# Altium footprint library TagConnect.PcbLib: 4 footprints
Each footprint in its own frame and in the unit in brackets; x right, y up, seen from the top. Pads: shape width x height; smd on the part's side, far side on the other; paste and mask are expansions set on the pad; w line width, h text height; cw(c..) or ccw(c..) is an arc to the next point about the centre after c.
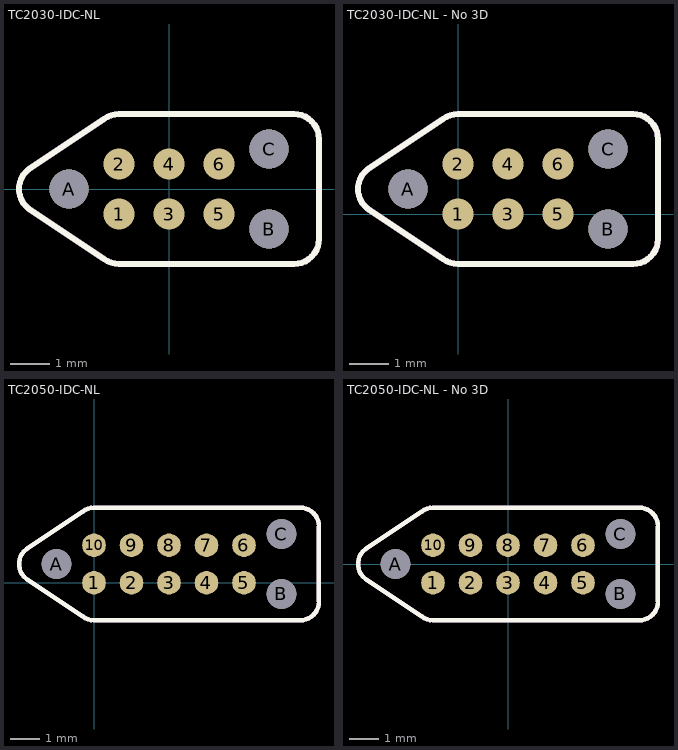
[diagram p0: the footprints below, top view; thin cyan lines are the x and y axes]

## TC2030-IDC-NL [mm]
pads (9):
  round 0.8 smd paste-0.9: 1(-1.27,-0.635) 2(-1.27,0.635) 3(0,-0.635) 4(0,0.635) 5(1.27,-0.635) 6(1.27,0.635)
  round 1 hole 1 unplated paste-1.1: A(-2.54,0) B(2.54,-1.016) C(2.54,1.016)
Top Overlay:
  lines w0.152: -3.556,-0.508 cw(c-3.175,0) -3.556,0.508 -1.651,1.778 cw(c-1.27,1.27) -1.27,1.905 3.175,1.905 cw(c3.175,1.27) 3.81,1.27 3.81,-1.27 cw(c3.175,-1.27) 3.175,-1.905 -1.27,-1.905 cw(c-1.27,-1.27) -1.651,-1.778 -3.556,-0.508
Mechanical 1:
  lines w0.152: -3.556,-0.508 cw(c-3.175,0) -3.556,0.508 -1.651,1.778 cw(c-1.27,1.27) -1.27,1.905 3.175,1.905 cw(c3.175,1.27) 3.81,1.27 3.81,-1.27 cw(c3.175,-1.27) 3.175,-1.905 -1.27,-1.905 cw(c-1.27,-1.27) -1.651,-1.778 -3.556,-0.508
3D body "TC2030.step": height 1.12, standoff -11.23, extent -3.81,-2.032 3.81,2.032

## TC2030-IDC-NL - No 3D [mm]
pads (9):
  round 0.8 smd paste-0.9: 1(0,0) 2(0,1.27) 3(1.27,0) 4(1.27,1.27) 5(2.54,0) 6(2.54,1.27)
  round 1 hole 1 unplated paste-1.1: A(-1.27,0.635) B(3.81,-0.381) C(3.81,1.651)
Top Overlay:
  lines w0.152: -2.286,0.127 cw(c-1.905,0.635) -2.286,1.143 -0.381,2.413 cw(c0,1.905) 0,2.54 4.445,2.54 cw(c4.445,1.905) 5.08,1.905 5.08,-0.635 cw(c4.445,-0.635) 4.445,-1.27 0,-1.27 cw(c0,-0.635) -0.381,-1.143 -2.286,0.127
Mechanical 1:
  lines w0.152: -2.286,0.127 cw(c-1.905,0.635) -2.286,1.143 -0.381,2.413 cw(c0,1.905) 0,2.54 4.445,2.54 cw(c4.445,1.905) 5.08,1.905 5.08,-0.635 cw(c4.445,-0.635) 4.445,-1.27 0,-1.27 cw(c0,-0.635) -0.381,-1.143 -2.286,0.127

## TC2050-IDC-NL [mm]
pads (13):
  round 0.8 smd paste-0.9: 1(0,0) 2(1.27,0) 3(2.54,0) 4(3.81,0) 5(5.08,0) 6(5.08,1.27) 7(3.81,1.27) 8(2.54,1.27) 9(1.27,1.27) 10(0,1.27)
  round 1 hole 1 unplated paste-1.1: A(-1.27,0.635) B(6.35,-0.381) C(6.35,1.651)
Top Overlay:
  lines w0.152: -2.286,0.127 cw(c-1.905,0.635) -2.286,1.143 -0.381,2.413 cw(c0,1.905) 0,2.54 6.985,2.54 cw(c6.985,1.905) 7.62,1.905 7.62,-0.635 cw(c6.985,-0.635) 6.985,-1.27 0,-1.27 cw(c0,-0.635) -0.381,-1.143 -2.286,0.127
Mechanical 1:
  lines w0.152: -2.286,0.127 cw(c-1.905,0.635) -2.286,1.143 -0.381,2.413 cw(c0,1.905) 0,2.54 6.985,2.54 cw(c6.985,1.905) 7.62,1.905 7.62,-0.635 cw(c6.985,-0.635) 6.985,-1.27 0,-1.27 cw(c0,-0.635) -0.381,-1.143 -2.286,0.127
3D body "TC2050.step": height 1.12, standoff -11.23, extent -2.54,-1.397 7.62,2.667

## TC2050-IDC-NL - No 3D [mm]
pads (13):
  round 0.8 smd paste-0.9: 1(-2.54,-0.635) 2(-1.27,-0.635) 3(0,-0.635) 4(1.27,-0.635) 5(2.54,-0.635) 6(2.54,0.635) 7(1.27,0.635) 8(0,0.635) 9(-1.27,0.635) 10(-2.54,0.635)
  round 1 hole 1 unplated paste-1.1: A(-3.81,0) B(3.81,-1.016) C(3.81,1.016)
Top Overlay:
  lines w0.152: -4.826,-0.508 cw(c-4.445,0) -4.826,0.508 -2.921,1.778 cw(c-2.54,1.27) -2.54,1.905 4.445,1.905 cw(c4.445,1.27) 5.08,1.27 5.08,-1.27 cw(c4.445,-1.27) 4.445,-1.905 -2.54,-1.905 cw(c-2.54,-1.27) -2.921,-1.778 -4.826,-0.508
Mechanical 1:
  lines w0.152: -4.826,-0.508 cw(c-4.445,0) -4.826,0.508 -2.921,1.778 cw(c-2.54,1.27) -2.54,1.905 4.445,1.905 cw(c4.445,1.27) 5.08,1.27 5.08,-1.27 cw(c4.445,-1.27) 4.445,-1.905 -2.54,-1.905 cw(c-2.54,-1.27) -2.921,-1.778 -4.826,-0.508